# Altium footprint library MolexMicroFit3_5POS_RA.PcbLib: 1 footprints
Each footprint in its own frame and in the unit in brackets; x right, y up, seen from the top. Pads: shape width x height; smd on the part's side, far side on the other; paste and mask are expansions set on the pad; w line width, h text height; cw(c..) or ccw(c..) is an arc to the next point about the centre after c.
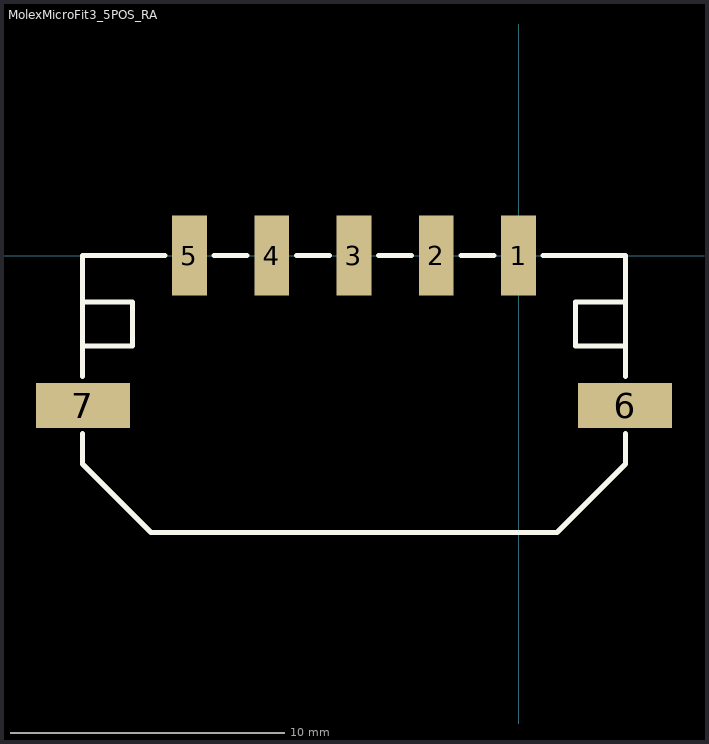
[diagram p0: the footprint, top view; thin cyan lines are the x and y axes]

## MolexMicroFit3_5POS_RA [mm]
pads (7):
  rect 1.27x2.92 smd: 1(0,0) 2(-3,0) 3(-6,0) 4(-9,0) 5(-12,0)
  rect 3.43x1.65 smd: 6(3.885,-5.47) 7(-15.885,-5.47)
Top Overlay:
  lines w0.191: -15.9,-6.5 -15.9,-7.6 -13.4,-10.1 1.4,-10.1 3.9,-7.6 3.9,-6.5 ; -15.9,-4.4 -15.9,0 -12.9,0 ; -15.9,-3.3 -14.075,-3.3 -14.075,-1.7 -15.9,-1.7 ; -11.1,0 -9.9,0 ; -8.1,0 -6.9,0 ; -5.1,0 -3.9,0 ; -2.1,0 -0.9,0 ; 0.9,0 3.9,0 3.9,-4.4 ; 3.9,-3.3 2.075,-3.3 ; 3.9,-1.7 2.075,-1.7 ; 2.075,-3.3 2.075,-1.7 ; 2.075,-3.3 2.075,-3.3 ; 2.075,-1.7 2.075,-1.7
3D body: height 0.7, standoff 0, extent -1.1,-3.8 -1.1,-3.8
3D body: height 0.7, standoff 0, extent -1.1,-3.8 -1.1,-3.8
3D body "436500512.stp": height 5.69, standoff 0.01, extent -17.32,-10.15 5.32,0.59